# EAGLE library part 74*138? (library 74xx)
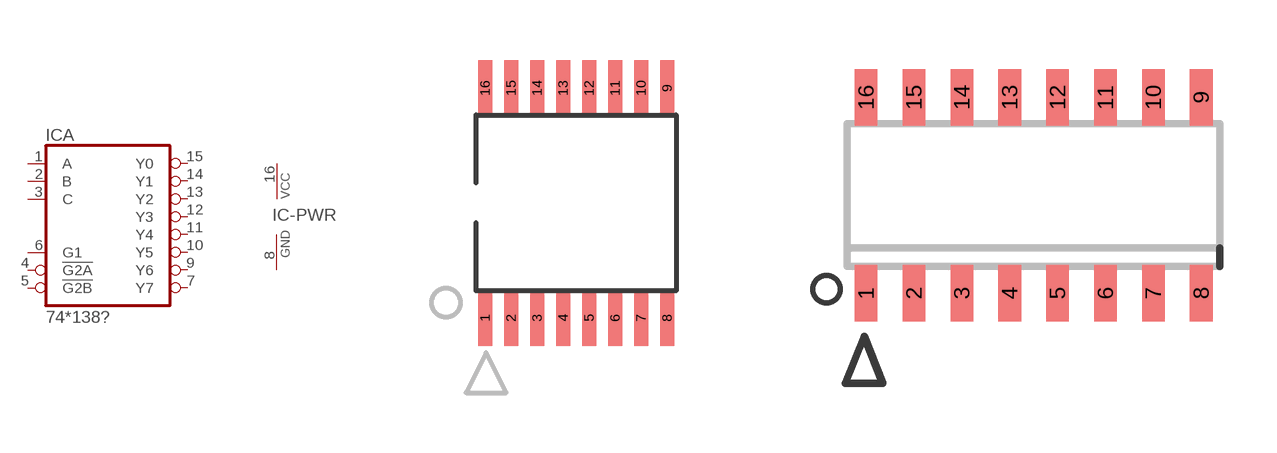
[diagram p6: symbol with the pads of TSSOP-16; footprints TSSOP-16, SOIC16N]

Designator prefix IC; gates A=74138 -PWR=PWRN

## 74AHCT138PW (MARK: HB138; MF: Texas Instruments; MPN: SN74AHCT138PWR)  [TSSOP-16]
1  A:A  in
2  A:B  in
3  A:C  in
4  A:!G2A  in
5  A:!G2B  in
6  A:G1  in
7  A:Y7  out
8  -PWR:GND  pwr
9  A:Y6  out
10  A:Y5  out
11  A:Y4  out
12  A:Y3  out
13  A:Y2  out
14  A:Y1  out
15  A:Y0  out
16  -PWR:VCC  pwr

## 74AHCT138DB (MARK: AHCT138; MF: Texas Instruments; MPN: SN74AHCT138DBR)  [SOIC16N]
Pads as for TSSOP-16

## Footprint TSSOP-16 (pad centres in mm)
smd 0.35 x 1.4: 1 -2.275,-2.875; 2 -1.625,-2.875; 3 -0.975,-2.875; 4 -0.325,-2.875; 5 0.325,-2.875; 6 0.975,-2.875; 7 1.625,-2.875; 8 2.275,-2.875; 9 2.275,2.875; 10 1.625,2.875; 11 0.975,2.875; 12 0.325,2.875; 13 -0.325,2.875; 14 -0.975,2.875; 15 -1.625,2.875; 16 -2.275,2.875

## Footprint SOIC16N (pad centres in mm)
SMALL OUTLINE INTEGRATED CIRCUIT
smd 0.6 x 1.5: 1 -4.445,-2.6; 2 -3.175,-2.6; 3 -1.905,-2.6; 4 -0.635,-2.6; 5 0.635,-2.6; 6 1.905,-2.6; 7 3.175,-2.6; 8 4.445,-2.6; 9 4.445,2.6; 10 3.175,2.6; 11 1.905,2.6; 12 0.635,2.6; 13 -0.635,2.6; 14 -1.905,2.6; 15 -3.175,2.6; 16 -4.445,2.6